# Altium schematic symbol library CNCPowerSupply.SchLib: 45 symbols
Pins are listed as number, name and electrical type; pins without a type are passive.

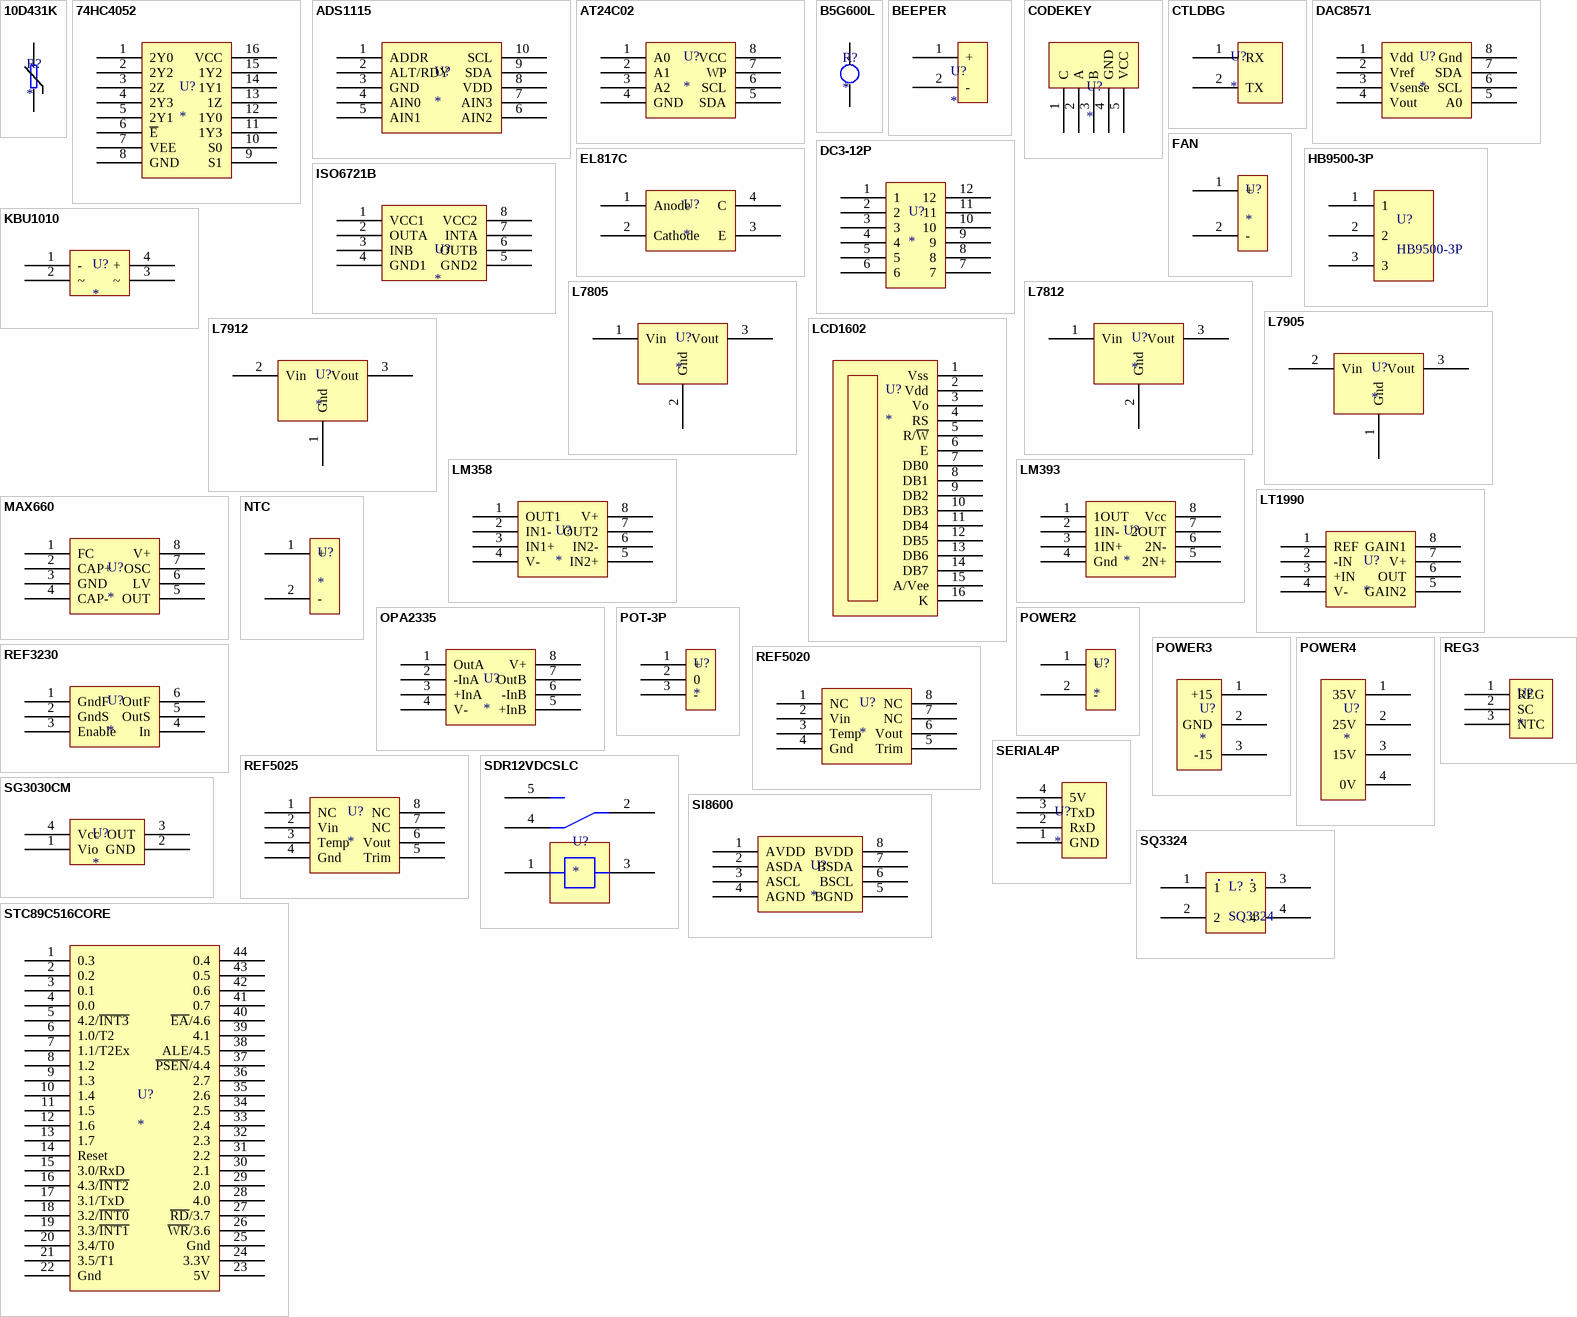
[diagram p0: symbols 10D431K to STC89C516CORE]

## 10D431K
designator R?
10D431K
footprint 10D431K
pins: 1, 2

## 74HC4052
designator U?
74HC4052
footprint SOP127P762-16L (16-Pin Small Outline Package 1.27 mm Pitch)
pins: 1 2Y0, 2 2Y2, 3 2Z, 4 2Y3, 5 2Y1, 6 ~{E}, 7 VEE, 8 GND, 9 S1, 10 S0, 11 1Y3, 12 1Y0, 13 1Z, 14 1Y1, 15 1Y2, 16 VCC

## ADS1115
designator U?
ADS1115
footprint TSSOP50P490-10AL (TSSOP, 10-Leads, Body 3x3mm, Pitch 0.5mm, IPC High Density)
pins: 1 ADDR, 2 ALT/RDY, 3 GND, 4 AIN0, 5 AIN1, 6 AIN2, 7 AIN3, 8 VDD, 9 SDA, 10 SCL

## AT24C02
designator U?
AT24C02
footprint DIP-8 (DIP; 8 Leads; Row Spacing 7.62 mm; Pitch 2.54 mm)
pins: 1 A0, 2 A1, 3 A2, 4 GND, 5 SDA, 6 SCL, 7 WP, 8 VCC

## B5G600L
designator R?
B5G600L
footprint B5G600L
pins: 1, 2

## BEEPER
designator U?
BEEPER
footprint BEEPER
pins: 1 +, 2 -

## CODEKEY
designator U?
CODEKEY
footprint CODEKEY
pins: 1 C, 2 A, 3 B, 4 GND, 5 VCC

## CTLDBG
designator U?
CTLDBG
footprint CTLDBG
pins: 1 RX, 2 TX

## DAC8571
designator U?
DAC8571
footprint TSOP65P490-8AL (TSOP, 8-Leads, Body 3x3mm, Pitch 0.65mm, IPC High Density)
pins: 1 Vdd, 2 Vref, 3 Vsense, 4 Vout, 5 A0, 6 SCL, 7 SDA, 8 Gnd

## DC3-12P
designator U?
DC3-12P
footprint DC312P (Connector; Header; 6x2 Position)
pins: 1, 2, 3, 4, 5, 6, 7, 8, 9, 10, 11, 12

## EL817C
designator U?
EL817C
footprint PC817
pins: 1 Anode, 2 Cathode, 3 E, 4 C

## FAN
designator U?
FAN
footprint X254-2P
pins: 1 +, 2 -

## HB9500-3P
designator U?
footprint HB9500-3P (Footprint not found)
pins: 1, 2, 3

## ISO6721B
designator U?
ISO6721B
footprint SOP127P636-8L (SOP, 8-Leads, Body 6x4.7mm, Pitch 1.27mm, IPC High Density)
pins: 1 VCC1, 2 OUTA, 3 INB, 4 GND1, 5 GND2, 6 OUTB, 7 INTA, 8 VCC2

## KBU1010
designator U?
KBU1010
footprint KBU1010
pins: 1 -, 2 ~, 3 ~, 4 +

## L7805
designator U?
L7805
footprint TO-220AB (TO, Thru-Hole, Vertical, Heatsink Mounted; 3 In-Line Leads; Pitch 2.54 mm)
pins: 1 Vin, 2 Gnd, 3 Vout

## L7812
designator U?
L7812
footprint TO-220AB (TO, Thru-Hole, Vertical, Heatsink Mounted; 3 In-Line Leads; Pitch 2.54 mm)
pins: 1 Vin, 2 Gnd, 3 Vout

## L7905
designator U?
L7905
footprint TO-220AB (TO, Thru-Hole, Vertical, Heatsink Mounted; 3 In-Line Leads; Pitch 2.54 mm)
pins: 1 Gnd, 2 Vin, 3 Vout

## L7912
designator U?
L7912
footprint TO-220AB (TO, Thru-Hole, Vertical, Heatsink Mounted; 3 In-Line Leads; Pitch 2.54 mm)
pins: 1 Gnd, 2 Vin, 3 Vout

## LCD1602
designator U?
LCD1602
footprint LCD1602
pins: 1 Vss, 2 Vdd, 3 Vo, 4 RS, 5 R/~{W}, 6 E, 7 DB0, 8 DB1, 9 DB2, 10 DB3, 11 DB4, 12 DB5, 13 DB6, 14 DB7, 15 A/Vee, 16 K

## LM358
designator U?
LM358
footprint DIP-8 (DIP; 8 Leads; Row Spacing 7.62 mm; Pitch 2.54 mm)
pins: 1 OUT1, 2 IN1-, 3 IN1+, 4 V-, 5 IN2+, 6 IN2-, 7 OUT2, 8 V+

## LM393
designator U?
LM393
footprint DIP-8 (DIP; 8 Leads; Row Spacing 7.62 mm; Pitch 2.54 mm)
pins: 1 1OUT, 2 1IN-, 3 1IN+, 4 Gnd, 5 2N+, 6 2N-, 7 2OUT, 8 Vcc

## LT1990
designator U?
LT1990
footprint SOP127P636-8L (SOP, 8-Leads, Body 6x4.7mm, Pitch 1.27mm, IPC High Density)
pins: 1 REF, 2 -IN, 3 +IN, 4 V-, 5 GAIN2, 6 OUT, 7 V+, 8 GAIN1

## MAX660
designator U?
MAX660
footprint DIP-8 (DIP; 8 Leads; Row Spacing 7.62 mm; Pitch 2.54 mm)
pins: 1 FC, 2 CAP+, 3 GND, 4 CAP-, 5 OUT, 6 LV, 7 OSC, 8 V+

## NTC
designator U?
NTC
footprint X254-2P
pins: 1 +, 2 -

## OPA2335
designator U?
OPA2335
footprint SOP127P636-8L (SOP, 8-Leads, Body 6x4.7mm, Pitch 1.27mm, IPC High Density)
pins: 1 OutA, 2 -InA, 3 +InA, 4 V-, 5 +InB, 6 -InB, 7 OutB, 8 V+

## POT-3P
designator U?
POT-3P
footprint X254-3P
pins: 1 +, 2 0, 3 -

## POWER2
designator U?
POWER2
footprint KF128-50-2P
pins: 1 +, 2 -

## POWER3
designator U?
Power Connector 3
footprint KF128-50-3P
pins: 1 +15, 2 GND, 3 -15

## POWER4
designator U?
Power Connector 3
footprint KF128-50-4P
pins: 1 35V, 2 25V, 3 15V, 4 0V

## REF3230
designator U?
REF3230
footprint SOT26A-6L (SOT23, 6-Leads, Body 2.9x1.7mm, Pitch 0.95mm, Lead Span 2.8mm, IPC High Density)
pins: 1 GndF, 2 GndS, 3 Enable, 4 In, 5 OutS, 6 OutF

## REF5020
designator U?
REF5020
footprint SOP127P636-8L (SOP, 8-Leads, Body 6x4.7mm, Pitch 1.27mm, IPC High Density)
pins: 1 NC, 2 Vin, 3 Temp, 4 Gnd, 5 Trim, 6 Vout, 7 NC, 8 NC

## REF5025
designator U?
REF5025
footprint SOP127P636-8L (SOP, 8-Leads, Body 6x4.7mm, Pitch 1.27mm, IPC High Density)
pins: 1 NC, 2 Vin, 3 Temp, 4 Gnd, 5 Trim, 6 Vout, 7 NC, 8 NC

## REG3
designator U?
REG2
footprint X254-3P
pins: 1 REG, 2 SC, 3 NTC

## SDR12VDCSLC
designator U?
SDR12VDCSLC
footprint SDR12VDCSLC
pins: 1 V+, 2 C, 3 V-, 4 I, 5 O

## SERIAL4P
designator U?
SERIAL4P
footprint X254-4P
pins: 1 GND, 2 RxD, 3 TxD, 4 5V

## SG3030CM
designator U?
SG3030CM
footprint SG3030CM
pins: 1 Vio, 2 GND, 3 OUT, 4 Vcc

## SI8600
designator U?
SI8600
footprint SOP127P636-8L (SOP, 8-Leads, Body 6x4.7mm, Pitch 1.27mm, IPC High Density)
pins: 1 AVDD, 2 ASDA, 3 ASCL, 4 AGND, 5 BGND, 6 BSCL, 7 BSDA, 8 BVDD

## SQ3324
designator L?
footprint SQ3324
pins: 1, 2, 3, 4

## STC89C516CORE
designator U?
STC89C516CORE
footprint STC89516CORE
pins: 1 0.3, 2 0.2, 3 0.1, 4 0.0, 5 4.2/~{INT3}, 6 1.0/T2, 7 1.1/T2Ex, 8 1.2, 9 1.3, 10 1.4, 11 1.5, 12 1.6, 13 1.7, 14 Reset, 15 3.0/RxD, 16 4.3/~{INT2}, 17 3.1/TxD, 18 3.2/~{INT0}, 19 3.3/~{INT1}, 20 3.4/T0, 21 3.5/T1, 22 Gnd, 23 5V, 24 3.3V, 25 Gnd, 26 ~{WR}/3.6, 27 ~{RD}/3.7, 28 4.0, 29 2.0, 30 2.1, 31 2.2, 32 2.3, 33 2.4, 34 2.5, 35 2.6, 36 2.7, 37 ~{PSEN}/4.4, 38 ALE/4.5, 39 4.1, 40 ~{EA}/4.6, 41 0.7, 42 0.6, 43 0.5, 44 0.4

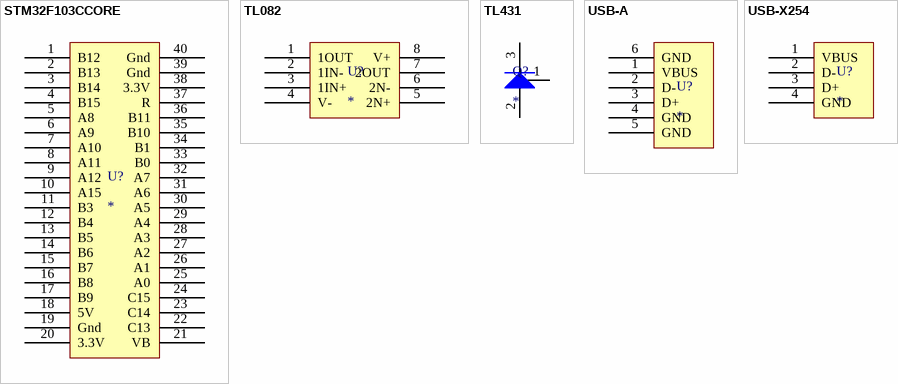
[diagram p1: symbols STM32F103CCORE to USB-X254]

## STM32F103CCORE
designator U?
STM32F103CCORE
footprint STM32F103C (STM32F103C Core)
pins: 1 B12, 2 B13, 3 B14, 4 B15, 5 A8, 6 A9, 7 A10, 8 A11, 9 A12, 10 A15, 11 B3, 12 B4, 13 B5, 14 B6, 15 B7, 16 B8, 17 B9, 18 5V, 19 Gnd, 20 3.3V, 21 VB, 22 C13, 23 C14, 24 C15, 25 A0, 26 A1, 27 A2, 28 A3, 29 A4, 30 A5, 31 A6, 32 A7, 33 B0, 34 B1, 35 B10, 36 B11, 37 R, 38 3.3V, 39 Gnd, 40 Gnd

## TL082
designator U?
TL082
footprint DIP-8 (DIP; 8 Leads; Row Spacing 7.62 mm; Pitch 2.54 mm)
pins: 1 1OUT, 2 1IN-, 3 1IN+, 4 V-, 5 2N+, 6 2N-, 7 2OUT, 8 V+

## TL431
designator Q?
TL431
pins: 1 REF, 2 A, 3 K

## USB-A
designator U?
USB-A
footprint USB-A
pins: 1 VBUS, 2 D-, 3 D+, 4 GND, 5 GND, 6 GND

## USB-X254
designator U?
USB-X254
footprint X254-4P
pins: 1 VBUS, 2 D-, 3 D+, 4 GND